# EAGLE library part DISPLAYS-HD44780 (library bytewerk-led)
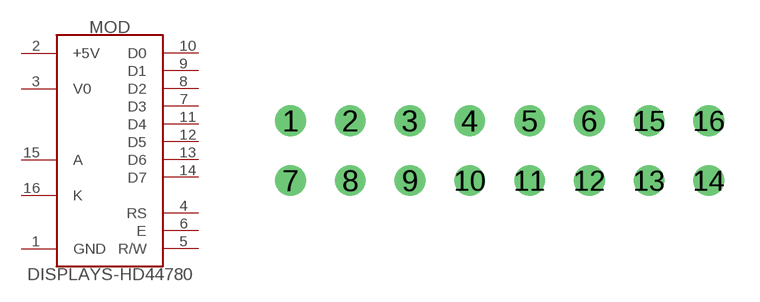
[diagram p1: symbol with the pads of HD44780; footprint HD44780]

Designator prefix MOD

## DISPLAYS-HD44780  [HD44780]
1  GND  pwr
2  +5V  pwr
3  V0  pas
4  RS  in
5  R/W  in
6  E  in
7  D3
8  D2
9  D1
10  D0
11  D4
12  D5
13  D6
14  D7
15  A  pwr
16  K  pwr

## Footprint HD44780 (pad centres in mm)
drill 0.8: 1 -8.89,1.27; 2 -6.35,1.27; 3 -3.81,1.27; 4 -1.27,1.27; 5 1.27,1.27; 6 3.81,1.27; 7 -8.89,-1.27; 8 -6.35,-1.27; 9 -3.81,-1.27; 10 -1.27,-1.27; 11 1.27,-1.27; 12 3.81,-1.27; 13 6.35,-1.27; 14 8.89,-1.27; 15 6.35,1.27; 16 8.89,1.27